# Altium schematic symbol library LQ-TC264MB-V3.SCHLIB: 32 symbols
Pins are listed as number, name and electrical type; pins without a type are passive.

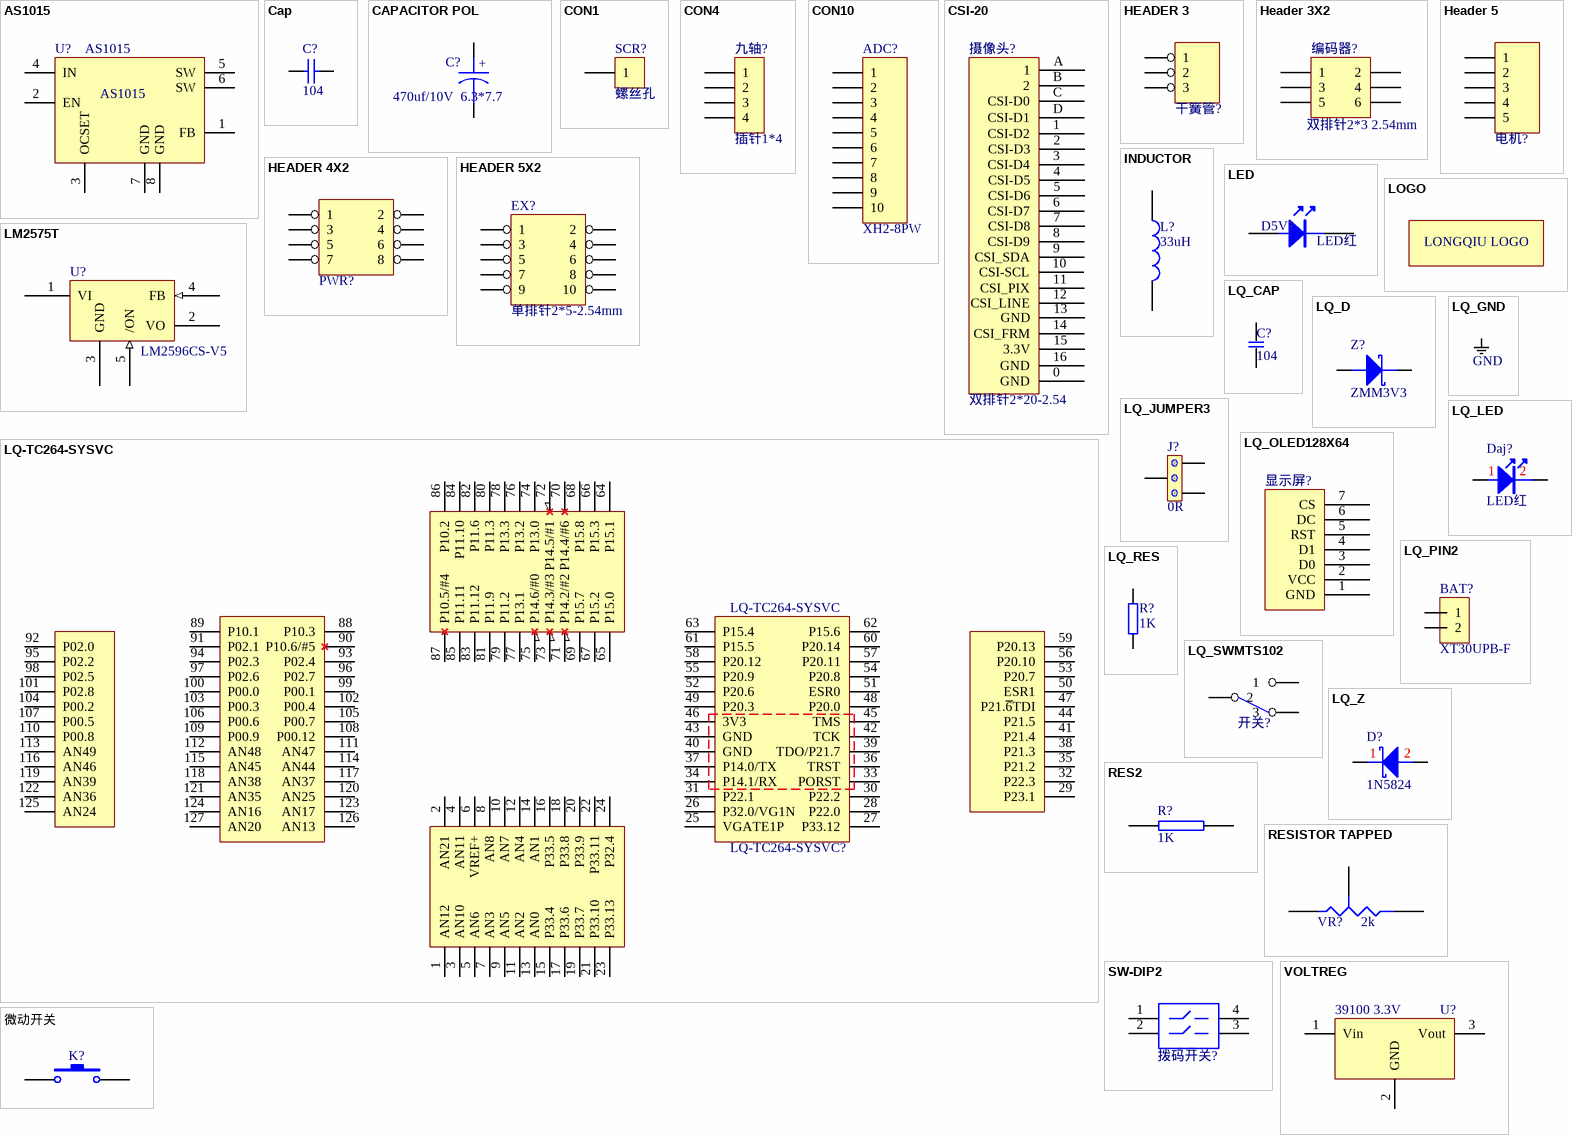
[diagram p0: symbols AS1015 to 微动开关]

## AS1015
designator U?
footprint SO-8
footprint SOP8
pins: 1 FB, 2 EN, 3 OCSET, 4 IN, 5 SW, 6 SW, 7 GND, 8 GND

## Cap
designator C?, comment 104
Capacitor; Published: 8-Jun-2000; LatestRevisionDate: 17-Jul-2002; LatestRevisionNote: Re-released for DXP Platform.; PackageReference: RAD-0.3; Publisher: Altium Limited; PackageDescription: Radial Cap, Thru-Hole; 2 Leads; 0.3 in Pin Spacing; Value: 104
footprint RAD-0.3 (Radial Cap, Thru-Hole; 2 Leads; 0.3 in Pin Spacing)
simulation model CAP (Capacitor)
signal-integrity model Cap
footprint LQ_C0603
pins: 1, 2

## CAPACITOR POL
designator C?, comment 470uf/10V  6.3*7.7
Capacitor
footprint LQ_C6d3X7d7
footprint Model Name (Footprint not found)
pins: 1, 2
text: +

## CON1
designator SCR?, comment 螺丝孔
Connector
footprint LQ_SCROW3&5mm
pins: 1

## CON4
designator 九轴?, comment 插针1*4
Connector
footprint LQ_XH254-4P
pins: 1, 2, 3, 4

## CON10
designator ADC?, comment XH2-8PW
Connector
footprint LQ_IDC5X2
pins: 1, 2, 3, 4, 5, 6, 7, 8, 9, 10

## CSI-20
designator 摄像头?, comment 双排针2*20-2.54
footprint LQ_CSI-20P
pins: 0 GND, 1 CSI-D2, 2 CSI-D3, 3 CSI-D4, 4 CSI-D5, 5 CSI-D6, 6 CSI-D7, 7 CSI-D8, 8 CSI-D9, 9 CSI_SDA, 10 CSI-SCL, 11 CSI_PIX, 12 CSI_LINE, 13 GND, 14 CSI_FRM, 15 3.3V, 16 GND, A 1, B 2, C CSI-D0, D CSI-D1

## HEADER 3
designator 干簧管?, comment XH254-3P  (value not drawn)
footprint LQ_XH254-3P
pins: 1, 2, 3

## Header 3X2
designator 编码器?, comment 双排针2*3 2.54mm
Header, 3-Pin, Dual row; LatestRevisionDate: 17-Jul-2002; LatestRevisionNote: Re-released for DXP Platform.; Publisher: Altium Limited
footprint HDR2X3
footprint LQ_ENCODER
pins: 1, 2, 3, 4, 5, 6
2 alternate drawings of the same symbol

## HEADER 4X2
designator PWR?, comment 双排针4X2-2.54  (value not drawn)
footprint LQ_IDC4X2
pins: 1, 2, 3, 4, 5, 6, 7, 8

## Header 5
designator 电机?, comment XH254-4P  (value not drawn)
Header, 5-Pin; LatestRevisionDate: 17-Jul-2002; LatestRevisionNote: Re-released for DXP Platform.; Publisher: Altium Limited
footprint LQ_XH254-5P
pins: 1, 2, 3, 4, 5
2 alternate drawings of the same symbol

## HEADER 5X2
designator EX?, comment 单排针2*5-2.54mm
footprint LQ_IDC5X2
pins: 1, 2, 3, 4, 5, 6, 7, 8, 9, 10

## INDUCTOR
designator L?, comment 33uH
footprint LQ_L7X7
pins: 1, 2

## LED
designator D5V?, comment LED红
footprint LQ_0805
footprint LQ_0805LED
footprint LQ_LED0603R
pins: 1, 2

## LM2575T
designator U?, comment LM2596CS-V5
footprint LQ_TO-263-5
pins: 1 VI (power), 2 VO (power), 3 GND (power), 4 FB (in), 5 /ON (in)

## LOGO
designator LQ?  (value not drawn)
footprint LOGO5X8MM
text: LONGQIU LOGO

## LQ-TC264-SYSVC
designator LQ-TC264-SYSVC?
footprint LQ-TC264-SYSVC (单片机核心板封装库)
footprint LQ-TC264-SYSVC-S (单片机核心板封装库)
pins: 1 AN12, 2 AN21, 3 AN10, 4 AN11, 5 AN6, 6 VREF+, 7 AN3, 8 AN8, 9 AN5, 10 AN7, 11 AN2, 12 AN4, 13 AN0, 14 AN1, 15 P33.4, 16 P33.5, 17 P33.6, 18 P33.8, 19 P33.7, 20 P33.9, 21 P33.10, 22 P33.11, 23 P33.13, 24 P32.4, 25 VGATE1P, 26 P32.0/VG1N, 27 P33.12, 28 P22.0, 29 P23.1, 30 P22.2, 31 P22.1, 32 P22.3, 33 PORST, 34 P14.1/RX, 35 P21.2, 36 TRST, 37 P14.0/TX, 38 P21.3, 39 TDO/P21.7, 40 GND, 41 P21.4, 42 TCK, 43 GND, 44 P21.5, 45 TMS, 46 3V3, 47 P21.~{6}TDI, 48 P20.0, 49 P20.3, 50 ESR1, 51 ESR0, 52 P20.6, 53 P20.7, 54 P20.8, 55 P20.9, 56 P20.10, 57 P20.11, 58 P20.12, 59 P20.13, 60 P20.14, 61 P15.5, 62 P15.6, 63 P15.4, 64 P15.1, 65 P15.0, 66 P15.3, 67 P15.2, 68 P15.8, 69 P15.7, 70 P14.4/#6, 71 P14.2/#2, 72 P14.5/#1, 73 P14.3/#3, 74 P13.0, 75 P14.6/#0, 76 P13.2, 77 P13.1, 78 P13.3, 79 P11.2, 80 P11.3, 81 P11.9, 82 P11.6, 83 P11.12, 84 P11.10, 85 P11.11, 86 P10.2, 87 P10.5/#4, 88 P10.3, 89 P10.1, 90 P10.6/#5, 91 P02.1, 92 P02.0, 93 P02.4, 94 P02.3, 95 P02.2, 96 P02.7, 97 P02.6, 98 P02.5, 99 P00.1, 100 P00.0, 101 P02.8, 102 P00.4, 103 P00.3, 104 P00.2, 105 P00.7, 106 P00.6, 107 P00.5, 108 P00.12, 109 P00.9, 110 P00.8, 111 AN47, 112 AN48, 113 AN49, 114 AN44, 115 AN45, 116 AN46, 117 AN37, 118 AN38, 119 AN39, 120 AN25, 121 AN35, 122 AN36, 123 AN17, 124 AN16, 125 AN24, 126 AN13, 127 AN20

## LQ_CAP
designator C?, comment 104
CAP
footprint LQ_0805
footprint LQ_0603
footprint LQ_1206
footprint LQ_1210
footprint LQ_C0603
pins: 1, 2

## LQ_D
designator Z?, comment ZMM3V3
Schottky Diode
footprint LQ_1206D
footprint LQ_1210D
footprint LQ_1812D
pins: 1, 2

## LQ_GND
designator GND?, comment GND
footprint LQ_JUMPER2 (Footprint not found)
footprint LQ_TP-TL
footprint LQ_GND
footprint LQ_GND2

## LQ_JUMPER3
designator J?, comment 0R
Jumper
footprint LQ_SIP3
footprint LQ_0603JUMP
pins: 1, 2, 3

## LQ_LED
designator Daj?, comment LED红
footprint LQ_led0603r
footprint D1812
footprint LQ_LED0603R
pins: 1, 2

## LQ_OLED128X64
designator 显示屏?, comment 单排座1*7-2.54  (value not drawn)
footprint LQ-TFT-180V33
pins: 1 GND, 2 VCC, 3 D0, 4 D1, 5 RST, 6 DC, 7 CS
2 alternate drawings of the same symbol

## LQ_PIN2
designator BAT?, comment XT30UPB-F
Jumper
footprint LQ_XT30UPB-F
pins: 1, 2

## LQ_RES
designator R?, comment 1K
RES
footprint LQ_0805
footprint LQ_R0603
footprint 0603
pins: 1, 2

## LQ_SWMTS102
designator 开关?, comment KCD1-101 117S  (value not drawn)
LQ_SWMTS102
footprint LQ_KCD1-101 117S
footprint LQ_SWMTS102
pins: 1, 2, 3

## LQ_Z
designator D?, comment 1N5824
Schottky Diode
footprint LQ_D1206Z
footprint LQ_1210D
footprint LQ_D1812Z
footprint LQ_SOD-523
pins: 1, 2

## RES2
designator R?, comment 1K
footprint LQ_0805
footprint LQ_R0603
footprint 0603
pins: 1, 2

## RESISTOR TAPPED
designator VR?, comment 2k
footprint LQ_VR5
footprint lq_3266
pins: 1 A, 2 B, 3 TAP

## SW-DIP2
designator 拨码开关?  (value not drawn)
footprint DIP4
pins: 1, 2, 3, 4

## VOLTREG
designator U?, comment 39100 3.3V
footprint SOT223_M (SOT223, 4-Leads, Body 6.5x3.5mm, Pitch 2.3mm, Lead Span 7mm, IPC Low Density)
footprint LQ_TO-263-3
pins: 1 Vin, 2 GND, 3 Vout

## 微动开关
designator K?, comment 微动开关6*6*6  (value not drawn)
footprint 微动开关
footprint 贴片按键
footprint LQ_BT4SMT
pins: 1, 2
2 alternate drawings of the same symbol